# Altium footprint library PCB - LEADED - SOP - TI VSSOP-8 DGK.PCBLIB: 1 footprints
Each footprint in its own frame and in the unit in brackets; x right, y up, seen from the top. Pads: shape width x height; smd on the part's side, far side on the other; paste and mask are expansions set on the pad; w line width, h text height; cw(c..) or ccw(c..) is an arc to the next point about the centre after c.
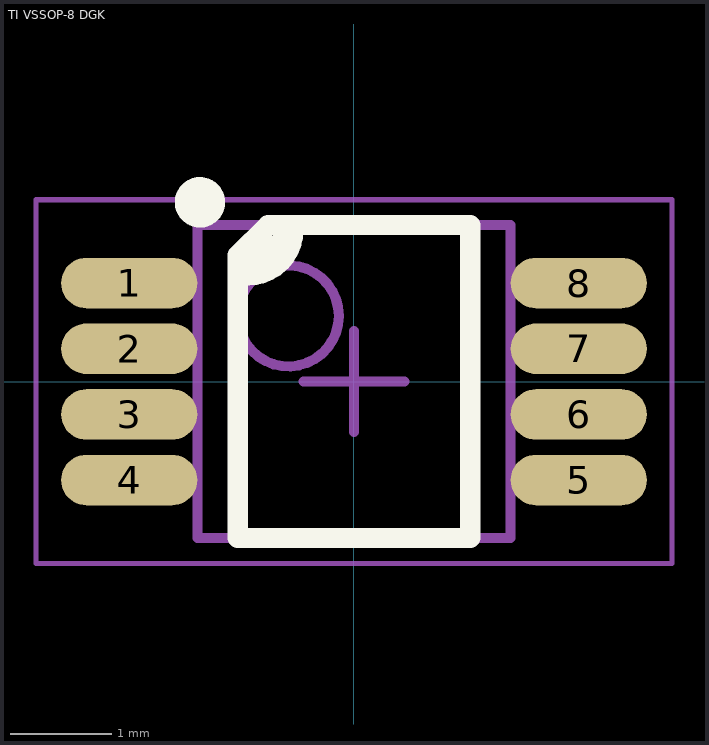
[diagram p0: the footprint, top view; thin cyan lines are the x and y axes]

## TI VSSOP-8 DGK [mm] "TSOP, 8-Leads, Body 3.00x3.00mm, Pitch 0.65mm, IPC Medium Density"
height 1.1
pads (8):
  oval 1.35x0.5 smd: 1(-2.225,0.975) 2(-2.225,0.325) 3(-2.225,-0.325) 4(-2.225,-0.975) 5(2.225,-0.975) 6(2.225,-0.325) 7(2.225,0.325) 8(2.225,0.975)
Top Overlay:
  circle w0.25: c-1.525,1.775 r0.125
  region: -1,1.4 -0.6,1.5 -0.6,1.35 -0.9,1.05 -1.1,1.05
  lines w0.2: -1.1,1.05 -1.05,1.05 ccw(c-1.05,1.5) -0.6,1.5 ; -1.15,-1.55 1.15,-1.55 1.15,1.55 -0.85,1.55 -1.15,1.25 -1.15,-1.55
Mechanical 13:
  circle w0.1: c-0.65,0.65 r0.5
  lines w0.1: -1.55,-1.55 -1.55,1.55 1.55,1.55 1.55,-1.55 -1.55,-1.55
Mechanical 15:
  lines w0.05: -3.15,-1.8 -3.15,1.8 3.15,1.8 3.15,-1.8 -3.15,-1.8
  lines w0.1: -0.5,0 0.5,0 ; 0,-0.5 0,0.5
3D body "TI VSSOP-8 DGK.STEP": height 1.1, standoff 0, extent -2.45,-1.5 2.45,1.5